# Altium schematic symbol library SCH - MCU - ATSAM - MICROCHIP SAML22J18A-MU QFN64.SchLib: 1 symbol
Pins are listed as number, name and electrical type; pins without a type are passive.

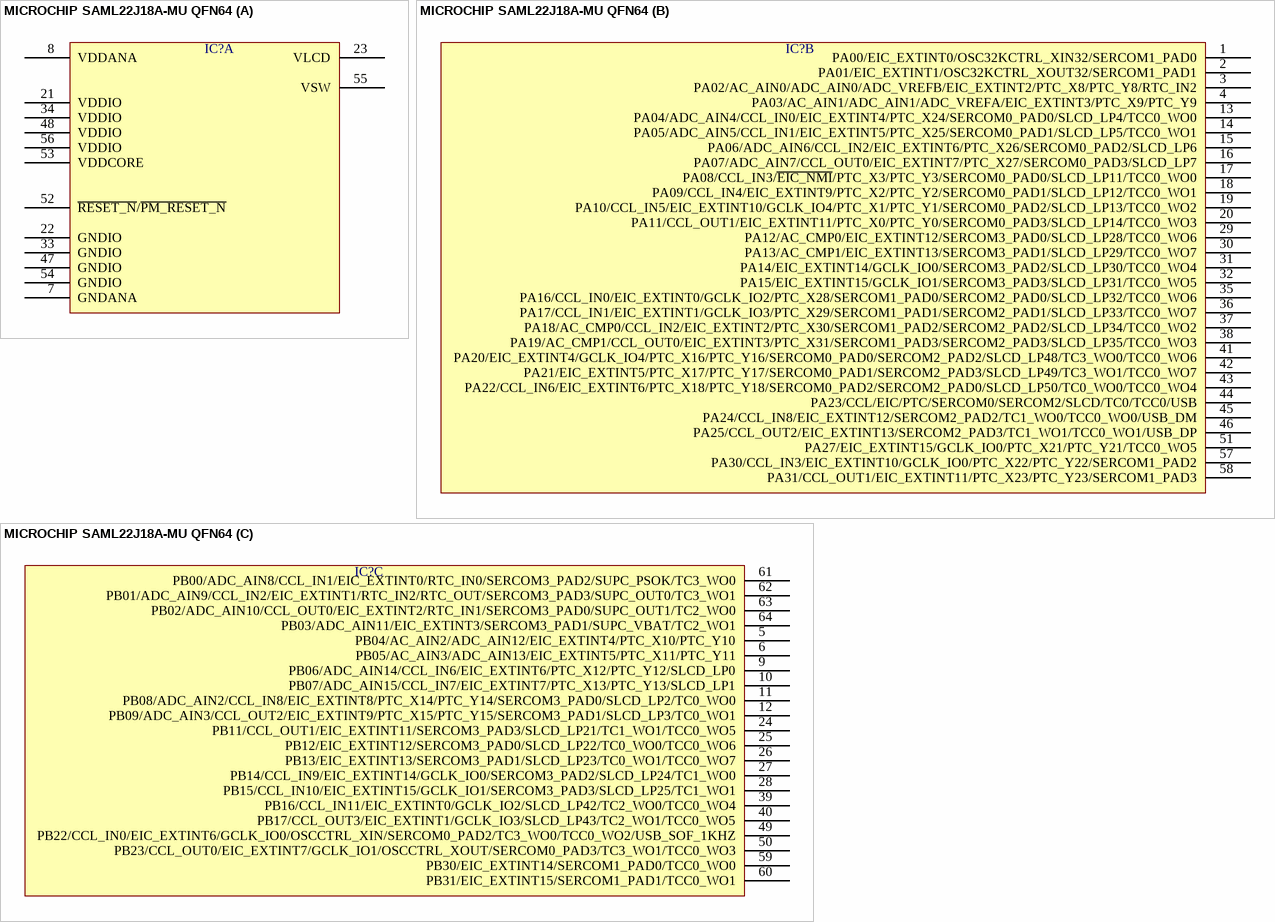
[diagram p0: symbol MICROCHIP SAML22J18A-MU QFN64]

## MICROCHIP SAML22J18A-MU QFN64
designator IC?  (value not drawn)
part A pins: 7 GNDANA, 8 VDDANA, 21 VDDIO, 22 GNDIO, 23 VLCD, 33 GNDIO, 34 VDDIO, 47 GNDIO, 48 VDDIO, 52 ~{RESET_N}/~{PM_RESET_N}, 53 VDDCORE, 54 GNDIO, 55 VSW, 56 VDDIO
part B pins: 1 PA00/EIC_EXTINT0/OSC32KCTRL_XIN32/SERCOM1_PAD0, 2 PA01/EIC_EXTINT1/OSC32KCTRL_XOUT32/SERCOM1_PAD1, 3 PA02/AC_AIN0/ADC_AIN0/ADC_VREFB/EIC_EXTINT2/PTC_X8/PTC_Y8/RTC_IN2, 4 PA03/AC_AIN1/ADC_AIN1/ADC_VREFA/EIC_EXTINT3/PTC_X9/PTC_Y9, 13 PA04/ADC_AIN4/CCL_IN0/EIC_EXTINT4/PTC_X24/SERCOM0_PAD0/SLCD_LP4/TCC0_WO0, 14 PA05/ADC_AIN5/CCL_IN1/EIC_EXTINT5/PTC_X25/SERCOM0_PAD1/SLCD_LP5/TCC0_WO1, 15 PA06/ADC_AIN6/CCL_IN2/EIC_EXTINT6/PTC_X26/SERCOM0_PAD2/SLCD_LP6, 16 PA07/ADC_AIN7/CCL_OUT0/EIC_EXTINT7/PTC_X27/SERCOM0_PAD3/SLCD_LP7, 17 PA08/CCL_IN3/~{EIC_NMI}/PTC_X3/PTC_Y3/SERCOM0_PAD0/SLCD_LP11/TCC0_WO0, 18 PA09/CCL_IN4/EIC_EXTINT9/PTC_X2/PTC_Y2/SERCOM0_PAD1/SLCD_LP12/TCC0_WO1, 19 PA10/CCL_IN5/EIC_EXTINT10/GCLK_IO4/PTC_X1/PTC_Y1/SERCOM0_PAD2/SLCD_LP13/TCC0_WO2, 20 PA11/CCL_OUT1/EIC_EXTINT11/PTC_X0/PTC_Y0/SERCOM0_PAD3/SLCD_LP14/TCC0_WO3, 29 PA12/AC_CMP0/EIC_EXTINT12/SERCOM3_PAD0/SLCD_LP28/TCC0_WO6, 30 PA13/AC_CMP1/EIC_EXTINT13/SERCOM3_PAD1/SLCD_LP29/TCC0_WO7, 31 PA14/EIC_EXTINT14/GCLK_IO0/SERCOM3_PAD2/SLCD_LP30/TCC0_WO4, 32 PA15/EIC_EXTINT15/GCLK_IO1/SERCOM3_PAD3/SLCD_LP31/TCC0_WO5, 35 PA16/CCL_IN0/EIC_EXTINT0/GCLK_IO2/PTC_X28/SERCOM1_PAD0/SERCOM2_PAD0/SLCD_LP32/TCC0_WO6, 36 PA17/CCL_IN1/EIC_EXTINT1/GCLK_IO3/PTC_X29/SERCOM1_PAD1/SERCOM2_PAD1/SLCD_LP33/TCC0_WO7, 37 PA18/AC_CMP0/CCL_IN2/EIC_EXTINT2/PTC_X30/SERCOM1_PAD2/SERCOM2_PAD2/SLCD_LP34/TCC0_WO2, 38 PA19/AC_CMP1/CCL_OUT0/EIC_EXTINT3/PTC_X31/SERCOM1_PAD3/SERCOM2_PAD3/SLCD_LP35/TCC0_WO3, 41 PA20/EIC_EXTINT4/GCLK_IO4/PTC_X16/PTC_Y16/SERCOM0_PAD0/SERCOM2_PAD2/SLCD_LP48/TC3_WO0/TCC0_WO6, 42 PA21/EIC_EXTINT5/PTC_X17/PTC_Y17/SERCOM0_PAD1/SERCOM2_PAD3/SLCD_LP49/TC3_WO1/TCC0_WO7, 43 PA22/CCL_IN6/EIC_EXTINT6/PTC_X18/PTC_Y18/SERCOM0_PAD2/SERCOM2_PAD0/SLCD_LP50/TC0_WO0/TCC0_WO4, 44 PA23/CCL/EIC/PTC/SERCOM0/SERCOM2/SLCD/TC0/TCC0/USB, 45 PA24/CCL_IN8/EIC_EXTINT12/SERCOM2_PAD2/TC1_WO0/TCC0_WO0/USB_DM, 46 PA25/CCL_OUT2/EIC_EXTINT13/SERCOM2_PAD3/TC1_WO1/TCC0_WO1/USB_DP, 51 PA27/EIC_EXTINT15/GCLK_IO0/PTC_X21/PTC_Y21/TCC0_WO5, 57 PA30/CCL_IN3/EIC_EXTINT10/GCLK_IO0/PTC_X22/PTC_Y22/SERCOM1_PAD2, 58 PA31/CCL_OUT1/EIC_EXTINT11/PTC_X23/PTC_Y23/SERCOM1_PAD3
part C pins: 5 PB04/AC_AIN2/ADC_AIN12/EIC_EXTINT4/PTC_X10/PTC_Y10, 6 PB05/AC_AIN3/ADC_AIN13/EIC_EXTINT5/PTC_X11/PTC_Y11, 9 PB06/ADC_AIN14/CCL_IN6/EIC_EXTINT6/PTC_X12/PTC_Y12/SLCD_LP0, 10 PB07/ADC_AIN15/CCL_IN7/EIC_EXTINT7/PTC_X13/PTC_Y13/SLCD_LP1, 11 PB08/ADC_AIN2/CCL_IN8/EIC_EXTINT8/PTC_X14/PTC_Y14/SERCOM3_PAD0/SLCD_LP2/TC0_WO0, 12 PB09/ADC_AIN3/CCL_OUT2/EIC_EXTINT9/PTC_X15/PTC_Y15/SERCOM3_PAD1/SLCD_LP3/TC0_WO1, 24 PB11/CCL_OUT1/EIC_EXTINT11/SERCOM3_PAD3/SLCD_LP21/TC1_WO1/TCC0_WO5, 25 PB12/EIC_EXTINT12/SERCOM3_PAD0/SLCD_LP22/TC0_WO0/TCC0_WO6, 26 PB13/EIC_EXTINT13/SERCOM3_PAD1/SLCD_LP23/TC0_WO1/TCC0_WO7, 27 PB14/CCL_IN9/EIC_EXTINT14/GCLK_IO0/SERCOM3_PAD2/SLCD_LP24/TC1_WO0, 28 PB15/CCL_IN10/EIC_EXTINT15/GCLK_IO1/SERCOM3_PAD3/SLCD_LP25/TC1_WO1, 39 PB16/CCL_IN11/EIC_EXTINT0/GCLK_IO2/SLCD_LP42/TC2_WO0/TCC0_WO4, 40 PB17/CCL_OUT3/EIC_EXTINT1/GCLK_IO3/SLCD_LP43/TC2_WO1/TCC0_WO5, 49 PB22/CCL_IN0/EIC_EXTINT6/GCLK_IO0/OSCCTRL_XIN/SERCOM0_PAD2/TC3_WO0/TCC0_WO2/USB_SOF_1KHZ, 50 PB23/CCL_OUT0/EIC_EXTINT7/GCLK_IO1/OSCCTRL_XOUT/SERCOM0_PAD3/TC3_WO1/TCC0_WO3, 59 PB30/EIC_EXTINT14/SERCOM1_PAD0/TCC0_WO0, 60 PB31/EIC_EXTINT15/SERCOM1_PAD1/TCC0_WO1, 61 PB00/ADC_AIN8/CCL_IN1/EIC_EXTINT0/RTC_IN0/SERCOM3_PAD2/SUPC_PSOK/TC3_WO0, 62 PB01/ADC_AIN9/CCL_IN2/EIC_EXTINT1/RTC_IN2/RTC_OUT/SERCOM3_PAD3/SUPC_OUT0/TC3_WO1, 63 PB02/ADC_AIN10/CCL_OUT0/EIC_EXTINT2/RTC_IN1/SERCOM3_PAD0/SUPC_OUT1/TC2_WO0, 64 PB03/ADC_AIN11/EIC_EXTINT3/SERCOM3_PAD1/SUPC_VBAT/TC2_WO1